# EAGLE library part 750310310 (library WE-POE)
WE-PoE Power over Ethernet Transformer Characteristics Flyback transformer designed for PoE PDs Input voltage: 36 V to 57 V Switching frequencies: 200–500 kHz Operating temperature: –40 ºC to +125 ºC Isolation voltage: 1.5 kVAC/1 min Different output powers and voltages available Applications PoE powered devices IP Phones WLAN Access Points Access control terminals Security cameras <https://www.we-online.com/components/media/o766301v209%20Family-POE.jpg> Details see: www.we-online.com/en/components/products/WE-POE <www.we-online.com/catalog/WE-POE/?utm_source=eagle_model&utm_medium=description_link&utm_campaign=eisos_eagle> Updated by Ella 2024-01-09 2024 (C) Wurth Elektronik
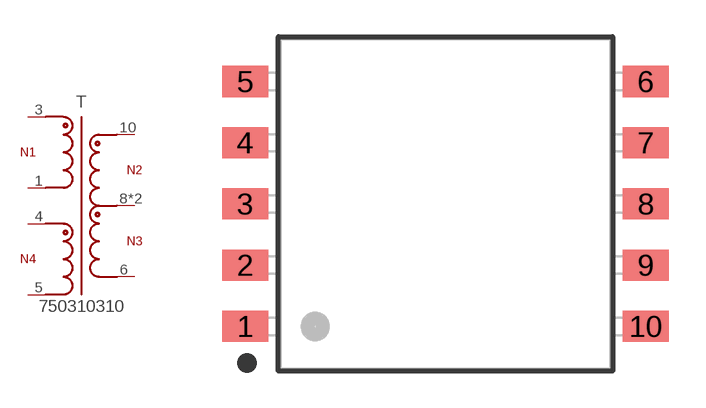
[diagram p7: symbol with the pads of WE-POE_EP13; footprint WE-POE_EP13]

Designator prefix T

## 750310310 (DATASHEET-URL: https://www.we-online.com/redexpert/spec/750310310?ae; IO1: 0.2A; IO2: 2.5A; L: 37uH; MOUNT: SMT; N: 5.25:1:1:2.75; PART-NUMBER: 750310310; SIZE: EP13; VALUE: 750310310; VERSION: Flyback; VIN: 13 - 59 V (DC); VO1: 6.6V; VO2: 3.3V; VT: 1500V(AC))  [WE-POE_EP13]
1  1  pas
3  3  pas
4  4  pas
5  5  pas
6  6  pas
8  8+9  pas
9  8+9  pas
10  10  pas

## Footprint WE-POE_EP13 (pad centres in mm)
WE-PoE Power over Ethernet Transformer EP13, SMT, 10Pins
smd 1.88 x 1.27: 1 -8.18,-5; 2 -8.18,-2.5; 3 -8.18,0; 4 -8.18,2.5; 5 -8.18,5; 6 8.18,5; 7 8.18,2.5; 8 8.18,0; 9 8.18,-2.5; 10 8.18,-5